# Altium footprint library PLD_PLS_connectors.PcbLib: 22 footprints (part 1 of 2)
Each footprint in its own frame and in the unit in brackets; x right, y up, seen from the top. Pads: shape width x height; smd on the part's side, far side on the other; paste and mask are expansions set on the pad; w line width, h text height; cw(c..) or ccw(c..) is an arc to the next point about the centre after c.
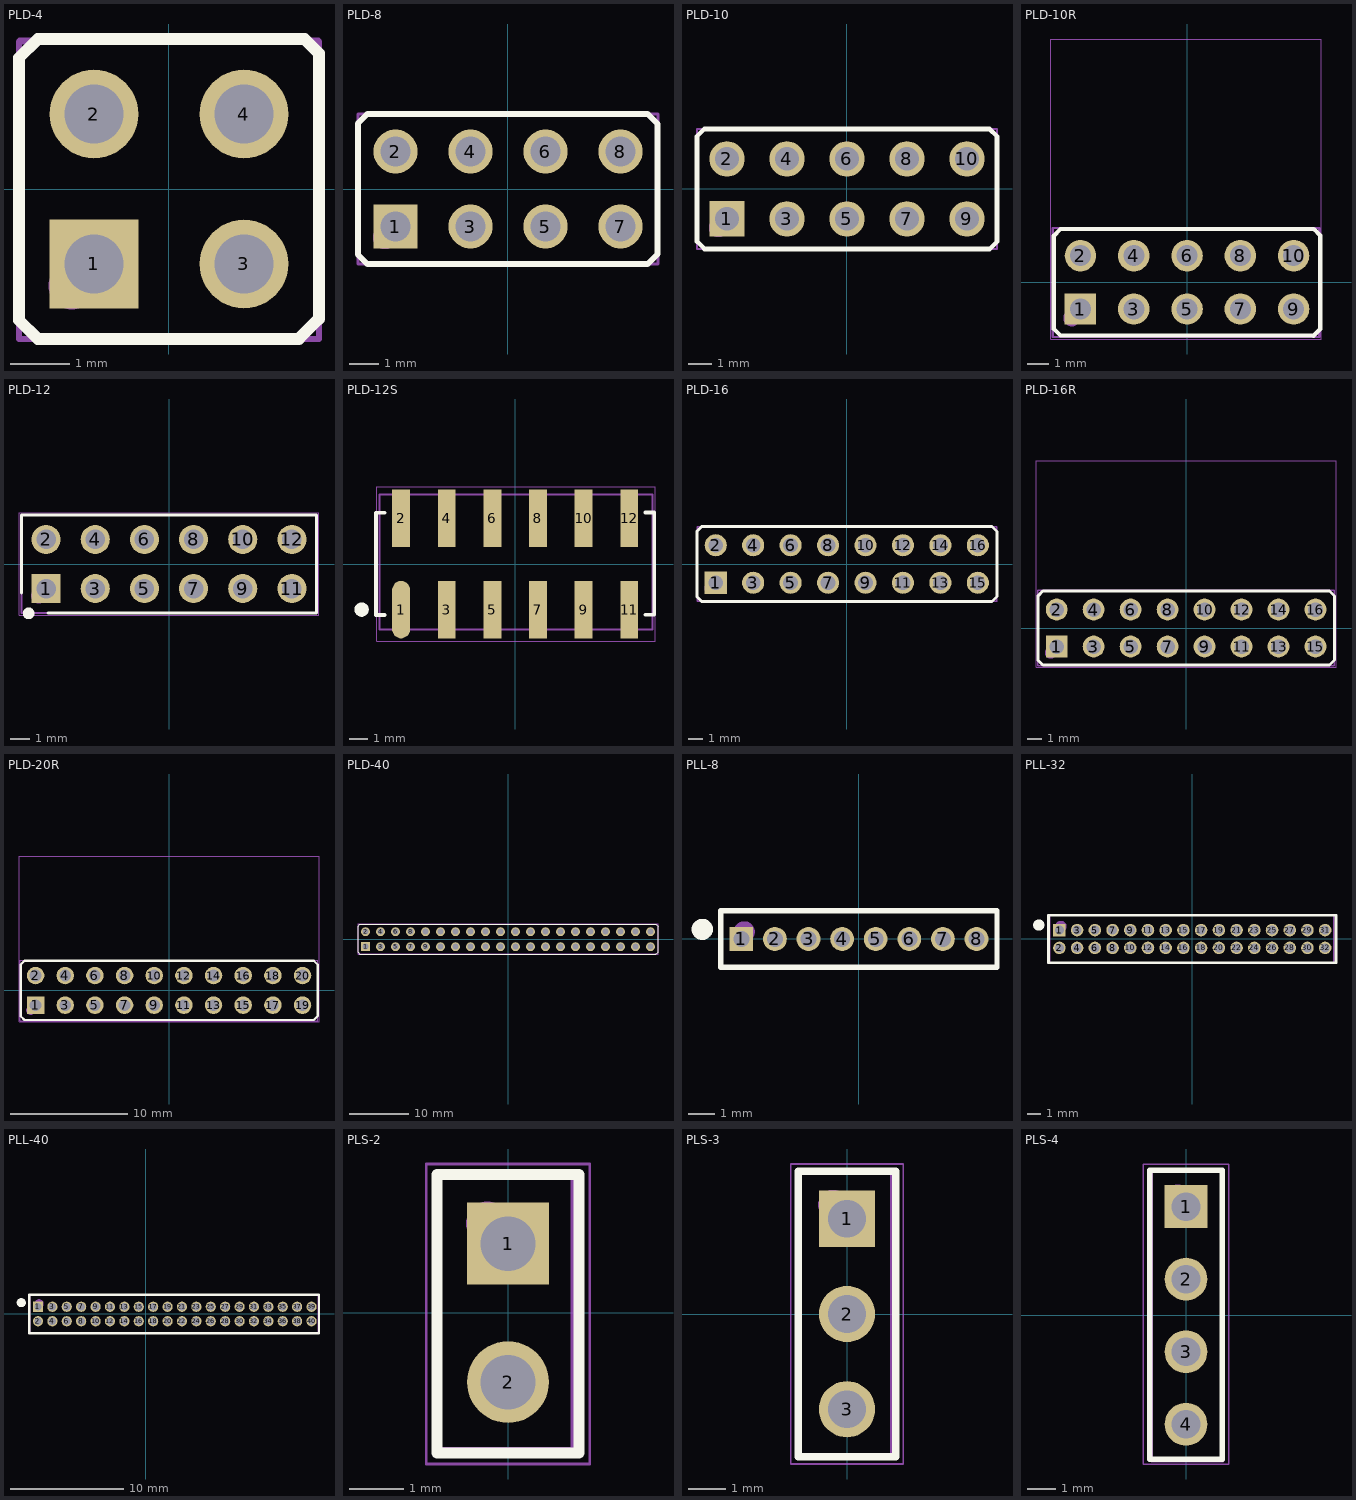
[diagram p0: the footprints below, top view; thin cyan lines are the x and y axes]

## PLD-4 [mm]
height 8.38
pads (4):
  rect 1.5x1.5 hole 1: 1(-1.27,-1.27)
  round 1.5 hole 1: 2(-1.27,1.27) 3(1.27,-1.27) 4(1.27,1.27)
Top Overlay:
  lines w0.2: -2.54,-2.222 -2.54,2.222 -2.222,2.54 2.3,2.54 2.54,2.3 2.54,-2.2 2.2,-2.54 -2.222,-2.54 -2.54,-2.222
Top Assembly:
  circle w0.4: c-1.64,-1.64 r0.2
  lines w0.1: -2.54,-2.54 2.54,-2.54 2.54,2.5 -2.54,2.5 -2.54,-2.54
  text ".Designator" at -4.998,-0.333 h1
Top Courtyard (Mech15):
  lines w0.05: -2.54,-2.54 2.54,-2.54 2.54,2.54 -2.54,2.54 -2.54,-2.54
3D body "DS1021-2x2SF11.stp": height 8.6, standoff -3, extent -2.54,-2.54 2.54,2.54

## PLD-8 [mm]
height 8.38
pads (8):
  rect 1.5x1.5 hole 1: 1(-3.81,-1.27)
  round 1.5 hole 1: 2(-3.81,1.27) 3(-1.27,-1.27) 4(-1.27,1.27) 5(1.27,-1.27) 6(1.27,1.27) 7(3.81,-1.27) 8(3.81,1.27)
Top Overlay:
  lines w0.2: -5.08,-2.222 -5.08,2.222 -4.763,2.54 4.73,2.54 5.07,2.2 5.07,-2.2 4.73,-2.54 -4.763,-2.54 -5.08,-2.222
Top Assembly:
  circle w0.4: c-4.18,-1.64 r0.2
  lines w0.1: -5.08,-2.54 5.08,-2.54 5.08,2.54 -5.08,2.54 -5.08,-2.54
  text ".Designator" at -4.998,-0.333 h1
Top Courtyard (Mech15):
  lines w0.05: -5.08,-2.54 5.07,-2.54 5.07,2.54 -5.08,2.54 -5.08,-2.54
3D body "DS1021-2x4SF11.stp": height 8.6, standoff -3, extent -5.08,-2.54 5.08,2.54

## PLD-10 [mm]
height 8.38
pads (10):
  rect 1.5x1.5 hole 1: 1(-5.08,-1.27)
  round 1.5 hole 1: 2(-5.08,1.27) 3(-2.54,-1.27) 4(-2.54,1.27) 5(0,-1.27) 6(0,1.27) 7(2.54,-1.27) 8(2.54,1.27) 9(5.08,-1.27) 10(5.08,1.27)
Top Overlay:
  lines w0.2: 6.032,-2.545 6.35,-2.228 6.35,2.228 6.043,2.535 ; 6.032,-2.54 -6.032,-2.54 -6.35,-2.222 -6.35,2.222 -6.032,2.54 6.043,2.54
Top Assembly:
  circle w0.4: c-5.45,-1.64 r0.2
  lines w0.1: -6.35,-2.54 -6.35,2.54 6.35,2.54 6.35,-2.54 -6.35,-2.54
  text ".Designator" at -4.998,-0.333 h1
Top Courtyard (Mech15):
  lines w0.05: -6.35,-2.54 6.35,-2.54 6.35,2.54 -6.35,2.54 -6.35,-2.54
3D body "DS1021-2x5SF11.stp": height 8.6, standoff -3, extent -6.35,-2.54 6.35,2.54

## PLD-10R [mm]
height 5
pads (10):
  rect 1.5x1.5 hole 1: 1(-5.08,-1.27)
  round 1.5 hole 1: 2(-5.08,1.27) 3(-2.54,-1.27) 4(-2.54,1.27) 5(0,-1.27) 6(0,1.27) 7(2.54,-1.27) 8(2.54,1.27) 9(5.08,-1.27) 10(5.08,1.27)
Top Overlay:
  lines w0.2: 6.032,-2.545 6.35,-2.228 6.35,2.228 6.043,2.535 ; 6.032,-2.54 -6.032,-2.54 -6.35,-2.222 -6.35,2.222 -6.032,2.54 6.043,2.54
Top Assembly:
  circle w0.4: c-5.5,-1.7 r0.2
  lines w0.1: -6.4,-2.6 -6.4,2.6 6.3,2.6 6.3,-2.6 -6.4,-2.6
  text ".Designator" at -4.998,-0.333 h1
Top Courtyard (Mech15):
  lines w0.05: -6.5,-2.7 -6.5,11.6 6.4,11.6 6.4,-2.7 -6.5,-2.7
3D body "DS1022-2x5RF11.stp": height 5.08, standoff -3, extent -6.4,-1.525 6.3,11.525

## PLD-12 [mm]
height 8.38
pads (12):
  rect 1.5x1.5 hole 1: 1(-6.35,-1.27)
  round 1.5 hole 1: 2(-6.35,1.27) 3(-3.81,-1.27) 4(-3.81,1.27) 5(-1.27,-1.27) 6(-1.27,1.27) 7(1.27,-1.27) 8(1.27,1.27) 9(3.81,-1.27) 10(3.81,1.27) 11(6.35,-1.27) 12(6.35,1.27)
Top Overlay:
  circle w0.4: c-7.25,-2.55 r0.1
  lines w0.15: -7.62,-1.5 -7.62,2.54 7.62,2.54 7.62,-2.54 -6.25,-2.54
Top Assembly:
  circle w0.4: c-6.72,-1.64 r0.2
  lines w0.1: -7.62,-2.54 -7.62,2.54 7.62,2.54 7.62,-2.54 -7.62,-2.54
  text ".Designator" at -4.998,-0.333 h1
Top Courtyard (Mech15):
  lines w0.05: -7.75,-2.65 7.75,-2.65 7.75,2.65 -7.75,2.65 -7.75,-2.65

## PLD-12S [mm]
pads (12):
  oval 1x3.2 smd: 1(-6.35,-2.542)
  rect 1x3.2 smd: 2(-6.35,2.542) 3(-3.81,-2.538) 4(-3.81,2.542) 5(-1.27,-2.538) 6(-1.27,2.542) 7(1.27,-2.538) 8(1.27,2.542) 9(3.81,-2.538) 10(3.81,2.542) 11(6.35,-2.538) 12(6.35,2.542)
Top Overlay:
  circle w0.4: c-8.55,-2.538 r0.2
  lines w0.2: -7.25,-2.838 -7.75,-2.838 -7.75,2.862 -7.25,2.862 ; 7.25,-2.834 7.75,-2.834 7.75,2.866 7.25,2.866
Top Assembly:
  circle w0.4: c-6.35,-2.45 r0.2
  lines w0.1: -7.55,-3.638 7.65,-3.638 7.65,3.862 -7.55,3.862 -7.55,-3.638
  text ".Designator" at -4.998,-0.333 h1
Top Courtyard (Mech15):
  lines w0.05: -7.7,-4.3 7.8,-4.3 7.8,4.3 -7.7,4.3 -7.7,-4.3
3D body "65693.stp": height 9.57, standoff -0.03, extent -7.57,-3.688 7.67,3.812

## PLD-16 [mm]
height 8.38
pads (16):
  rect 1.5x1.5 hole 1: 1(-8.89,-1.27)
  round 1.5 hole 1: 2(-8.89,1.27) 3(-6.35,-1.27) 4(-6.35,1.27) 5(-3.81,-1.27) 6(-3.81,1.27) 7(-1.27,-1.27) 8(-1.27,1.27) 9(1.27,-1.27) 10(1.27,1.27) 11(3.81,-1.27) 12(3.81,1.27) 13(6.35,-1.27) 14(6.35,1.27) 15(8.89,-1.27) 16(8.89,1.27)
Top Overlay:
  lines w0.2: -10.16,-2.222 -9.842,-2.54 9.85,-2.54 10.19,-2.2 10.19,2.2 9.85,2.54 -9.842,2.54 -10.16,2.222 -10.16,-2.222
Top Assembly:
  circle w0.4: c-9.26,-1.64 r0.2
  lines w0.1: -10.16,-2.54 -10.16,2.54 10.16,2.54 10.16,-2.54 -10.16,-2.54
  text ".Designator" at -4.998,-0.333 h1
Top Courtyard (Mech15):
  lines w0.05: -10.16,-2.54 -10.16,2.54 10.19,2.54 10.19,-2.54 -10.16,-2.54
3D body "DS1021-2x8SF11.stp": height 8.6, standoff -3, extent -10.16,-2.54 10.16,2.54

## PLD-16R [mm]
height 5
pads (16):
  rect 1.5x1.5 hole 1: 1(-8.89,-1.27)
  round 1.5 hole 1: 2(-8.89,1.27) 3(-6.35,-1.27) 4(-6.35,1.27) 5(-3.81,-1.27) 6(-3.81,1.27) 7(-1.27,-1.27) 8(-1.27,1.27) 9(1.27,-1.27) 10(1.27,1.27) 11(3.81,-1.27) 12(3.81,1.27) 13(6.35,-1.27) 14(6.35,1.27) 15(8.89,-1.27) 16(8.89,1.27)
Top Overlay:
  lines w0.2: -10.16,-2.222 -10.16,2.222 -9.842,2.54 9.85,2.54 10.19,2.2 10.19,-2.2 9.85,-2.54 -9.842,-2.54 -10.16,-2.222
Top Assembly:
  circle w0.4: c-9.3,-1.7 r0.2
  lines w0.1: -10.2,-2.6 10.19,-2.6 10.19,2.6 -10.2,2.6 -10.2,-2.6
  text ".Designator" at -4.998,-0.333 h1
Top Courtyard (Mech15):
  lines w0.05: -10.31,-2.7 10.3,-2.7 10.3,11.5 -10.31,11.5 -10.31,-2.7
3D body "DS1022-2x8RF11.stp": height 5.08, standoff -3, extent -10.2,-1.625 10.12,11.425

## PLD-20R [mm]
height 5
pads (20):
  rect 1.5x1.5 hole 1: 1(-11.43,-1.27)
  round 1.5 hole 1: 2(-11.43,1.27) 3(-8.89,-1.27) 4(-8.89,1.27) 5(-6.35,-1.27) 6(-6.35,1.27) 7(-3.81,-1.27) 8(-3.81,1.27) 9(-1.27,-1.27) 10(-1.27,1.27) 11(1.27,-1.27) 12(1.27,1.27) 13(3.81,-1.27) 14(3.81,1.27) 15(6.35,-1.27) 16(6.35,1.27) 17(8.89,-1.27) 18(8.89,1.27) 19(11.43,-1.27) 20(11.43,1.27)
Top Overlay:
  lines w0.2: -12.7,-2.222 -12.383,-2.54 12.39,-2.54 12.73,-2.2 12.73,2.2 12.39,2.54 -12.383,2.54 -12.7,2.222 -12.7,-2.222
Top Assembly:
  circle w0.4: c-11.84,-1.7 r0.2
  lines w0.1: -12.74,-2.6 -12.74,2.6 12.73,2.6 12.73,-2.6 -12.74,-2.6
  text ".Designator" at -4.998,-0.333 h1
Top Courtyard (Mech15):
  lines w0.05: -12.85,-2.7 12.84,-2.7 12.84,11.5 -12.85,11.5 -12.85,-2.7
3D body "DS1022-2x10R61.stp": height 5, standoff -3, extent -12.74,-1.52 12.66,11.52

## PLD-40 [mm]
pads (40):
  rect 1.5x1.5 hole 1: 1(-24.13,-1.27)
  round 1.5 hole 1: 2(-24.13,1.27) 3(-21.59,-1.27) 4(-21.59,1.27) 5(-19.05,-1.27) 6(-19.05,1.27) 7(-16.51,-1.27) 8(-16.51,1.27) 9(-13.97,-1.27) 10(-13.97,1.27) 11(-11.43,-1.27) 12(-11.43,1.27) 13(-8.89,-1.27) 14(-8.89,1.27) 15(-6.35,-1.27) 16(-6.35,1.27) 17(-3.81,-1.27) 18(-3.81,1.27) 19(-1.27,-1.27) 20(-1.27,1.27) 21(1.27,-1.27) 22(1.27,1.27) 23(3.81,-1.27) 24(3.81,1.27) 25(6.35,-1.27) 26(6.35,1.27) 27(8.89,-1.27) 28(8.89,1.27) 29(11.43,-1.27) 30(11.43,1.27) 31(13.97,-1.27) 32(13.97,1.27) 33(16.51,-1.27) 34(16.51,1.27) 35(19.05,-1.27) 36(19.05,1.27) 37(21.59,-1.27) 38(21.59,1.27) 39(24.13,-1.27) 40(24.13,1.27)
Top Overlay:
  lines w0.2: -25.4,-2.222 -25.4,2.222 -25.082,2.54 25.06,2.54 25.4,2.2 25.4,-2.2 25.06,-2.54 -25.082,-2.54 -25.4,-2.222
Top Assembly:
  circle w0.4: c-24.5,-1.6 r0.2
  lines w0.1: -25.4,-2.5 25.4,-2.5 25.4,2.6 -25.4,2.6 -25.4,-2.5
  text ".Designator" at -4.998,-0.333 h1
Top Courtyard (Mech15):
  lines w0.05: -25.4,-2.54 25.4,-2.54 25.4,2.54 -25.4,2.54 -25.4,-2.54

## PLL-8 [mm]
pads (8):
  rect 0.9x0.9 hole 0.6: 1(-4.445,0)
  round 0.9 hole 0.6: 2(-3.175,0) 3(-1.905,0) 4(-0.635,0) 5(0.635,0) 6(1.905,0) 7(3.175,0) 8(4.445,0)
Top Overlay:
  circle w0.4: c-5.92,0.365 r0.2
  lines w0.2: -5.22,-1.065 5.219,-1.065 5.219,1.065 -5.22,1.065 -5.22,-1.065
Top Assembly:
  circle w0.4: c-4.337,0.269 r0.2
  lines w0.1: -5.22,-1.065 -5.22,1.065 5.219,1.065 5.219,-1.065 -5.22,-1.065
  text ".Designator" at -4.998,-0.333 h1

## PLL-32 [mm]
pads (32):
  rect 0.9x0.9 hole 0.65: 1(-9.525,0.635)
  round 0.9 hole 0.65: 2(-9.525,-0.635) 3(-8.255,0.635) 4(-8.255,-0.635) 5(-6.985,0.635) 6(-6.985,-0.635) 7(-5.715,0.635) 8(-5.715,-0.635) 9(-4.445,0.635) 10(-4.445,-0.635) 11(-3.175,0.635) 12(-3.175,-0.635) 13(-1.905,0.635) 14(-1.905,-0.635) 15(-0.635,0.635) 16(-0.635,-0.635) 17(0.635,0.635) 18(0.635,-0.635) 19(1.905,0.635) 20(1.905,-0.635) 21(3.175,0.635) 22(3.175,-0.635) 23(4.445,0.635) 24(4.445,-0.635) 25(5.715,0.635) 26(5.715,-0.635) 27(6.985,0.635) 28(6.985,-0.635) 29(8.255,0.635) 30(8.255,-0.635) 31(9.525,0.635) 32(9.525,-0.635)
Top Overlay:
  circle w0.4: c-11,1 r0.2
  lines w0.2: -10.3,-1.7 10.3,-1.7 10.3,1.7 -10.3,1.7 -10.3,-1.7
Top Assembly:
  circle w0.4: c-9.417,0.904 r0.2
  lines w0.1: -10.2,-1.7 -10.2,1.7 10.148,1.7 10.148,-1.7 -10.2,-1.7
  text ".Designator" at -4.998,-0.333 h1
3D body "PLL-16_2row.STEP": height 4.2, standoff -2.2, extent -10.173,-1.7 10.147,1.67

## PLL-40 [mm]
pads (40):
  rect 0.9x0.9 hole 0.65: 1(-9.525,0.635)
  round 0.9 hole 0.65: 2(-9.525,-0.635) 3(-8.255,0.635) 4(-8.255,-0.635) 5(-6.985,0.635) 6(-6.985,-0.635) 7(-5.715,0.635) 8(-5.715,-0.635) 9(-4.445,0.635) 10(-4.445,-0.635) 11(-3.175,0.635) 12(-3.175,-0.635) 13(-1.905,0.635) 14(-1.905,-0.635) 15(-0.635,0.635) 16(-0.635,-0.635) 17(0.635,0.635) 18(0.635,-0.635) 19(1.905,0.635) 20(1.905,-0.635) 21(3.175,0.635) 22(3.175,-0.635) 23(4.445,0.635) 24(4.445,-0.635) 25(5.715,0.635) 26(5.715,-0.635) 27(6.985,0.635) 28(6.985,-0.635) 29(8.255,0.635) 30(8.255,-0.635) 31(9.525,0.635) 32(9.525,-0.635) 33(10.795,0.635) 34(10.795,-0.635) 35(12.065,0.635) 36(12.065,-0.635) 37(13.335,0.635) 38(13.335,-0.635) 39(14.605,0.635) 40(14.605,-0.635)
Top Overlay:
  circle w0.4: c-11,1 r0.2
  lines w0.2: -10.3,-1.7 -10.3,1.7 15.263,1.7 15.263,-1.7 -10.3,-1.7
Top Assembly:
  circle w0.4: c-9.417,0.904 r0.2
  lines w0.1: -10.2,-1.7 15.195,-1.7 15.195,1.7 -10.2,1.7 -10.2,-1.7
  text ".Designator" at -4.998,-0.333 h1
3D body "PLL-20_2row.STEP": height 4.25, standoff -2.15, extent -10.2,-1.7 15.2,1.67

## PLS-2 [mm]
pads (2):
  rect 1.5x1.5 hole 1: 1(0,1.27)
  round 1.5 hole 1: 2(0,-1.27)
Top Overlay:
  lines w0.2: -1.3,-2.57 1.3,-2.57 1.3,2.54 -1.3,2.54 -1.3,-2.57
Top Assembly:
  circle w0.4: c-0.37,1.64 r0.2
  lines w0.1: -1.3,-2.51 1.2,-2.51 1.2,2.57 -1.3,2.57 -1.3,-2.51
  text ".Designator" at -4.998,-0.333 h1
Top Courtyard (Mech15):
  lines w0.05: -1.5,-2.77 -1.5,2.73 1.5,2.73 1.5,-2.77 -1.5,-2.77
3D body "DS1021-1x2SF11.stp": height 8.6, standoff -3, extent -1.27,-2.54 1.27,2.54

## PLS-3 [mm]
pads (3):
  rect 1.5x1.5 hole 1: 1(0,2.54)
  round 1.5 hole 1: 2(0,0) 3(0,-2.54)
Top Overlay:
  lines w0.2: -1.3,-3.81 -1.3,3.81 1.3,3.81 1.3,-3.81 -1.3,-3.81
Top Assembly:
  circle w0.4: c-0.37,2.91 r0.2
  lines w0.1: -1.3,-3.8 -1.3,3.81 1.2,3.81 1.2,-3.8 -1.3,-3.8
  text ".Designator" at -4.998,-0.333 h1
Top Courtyard (Mech15):
  lines w0.05: -1.5,-4 1.5,-4 1.5,4 -1.5,4 -1.5,-4
3D body "DS1021-1x3SF11.stp": height 8.6, standoff -3, extent -1.27,-3.81 1.27,3.81

## PLS-4 [mm]
pads (4):
  rect 1.5x1.5 hole 1: 1(0,3.81)
  round 1.5 hole 1: 2(0,1.27) 3(0,-1.27) 4(0,-3.81)
Top Overlay:
  lines w0.2: -1.27,-5.03 -1.27,5.08 1.27,5.08 1.27,-5.03 -1.27,-5.03
Top Assembly:
  circle w0.4: c-0.3,4.18 r0.2
  lines w0.1: -1.2,-5.1 1.3,-5.1 1.3,5.08 -1.2,5.08 -1.2,-5.1
  text ".Designator" at -4.998,-0.333 h1
Top Courtyard (Mech15):
  lines w0.05: -1.5,-5.2 1.5,-5.2 1.5,5.3 -1.5,5.3 -1.5,-5.2
3D body "DS1021-1x4SF11.stp": height 8.6, standoff -3, extent -1.27,-5.08 1.27,5.08